# EAGLE library part LX7178-01CSP-TR (library SamacSys_Parts)
Microsemi Source: Datasheet <http://www.microsemi.com/document-portal/doc_download/132513-lx7178-datasheet>
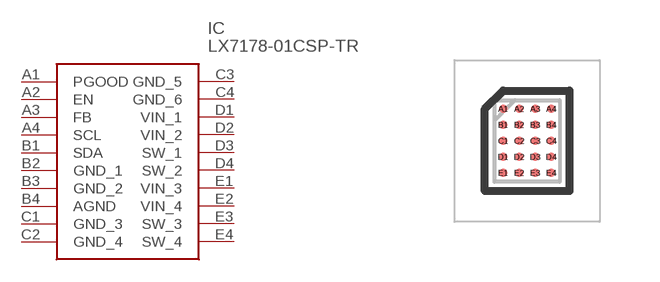
[diagram p1: symbol with the pads of BGA20C40P4X5_163X204X63; footprint BGA20C40P4X5_163X204X63]

Designator prefix IC

## LX7178-01CSP-TR (Description: Microsemi; Height: 0.626mm; Manufacturer_Name: Microsemi Corporation; Manufacturer_Part_Number: LX7178-01CSP-TR; Mouser_Part_Number: 494-LX7178-01CSP-TR; Mouser_Price-Stock: https://www.mouser.co.uk/ProductDetail/Microchip-Microsemi/LX7178-01CSP-TR?qs=1mbolxNpo8ekaYOPegjyRw%3D%3D)  [BGA20C40P4X5_163X204X63]
A1  PGOOD
A2  EN
A3  FB
A4  SCL
B1  SDA
B2  GND_1
B3  GND_2
B4  AGND
C1  GND_3
C2  GND_4
C3  GND_5
C4  GND_6
D1  VIN_1
D2  VIN_2
D3  SW_1
D4  SW_2
E1  VIN_3
E2  VIN_4
E3  SW_3
E4  SW_4

## Footprint BGA20C40P4X5_163X204X63 (pad centres in mm)
LX7178-01CSP-TR
smd 0.208 x 0.208: A1 -0.6,0.8; A2 -0.2,0.8; A3 0.2,0.8; A4 0.6,0.8; B1 -0.6,0.4; B2 -0.2,0.4; B3 0.2,0.4; B4 0.6,0.4; C1 -0.6,0; C2 -0.2,0; C3 0.2,0; C4 0.6,0; D1 -0.6,-0.4; D2 -0.2,-0.4; D3 0.2,-0.4; D4 0.6,-0.4; E1 -0.6,-0.8; E2 -0.2,-0.8; E3 0.2,-0.8; E4 0.6,-0.8